# Altium schematic symbol library SCH - DIODES - TVS - TI TPD4S012.Schlib: 1 symbol
Pins are listed as number, name and electrical type; pins without a type are passive.

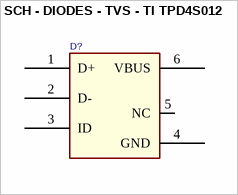
[diagram p0: symbol SCH - DIODES - TVS - TI TPD4S012]

## SCH - DIODES - TVS - TI TPD4S012
designator D?
footprint U_6_DRY
footprint U_6_DRY
pins: 1 D+, 2 D-, 3 ID, 4 GND (power), 5 NC, 6 VBUS (power)